# EAGLE library part MBED-NXP-LPC1786 (library Hoektronics)
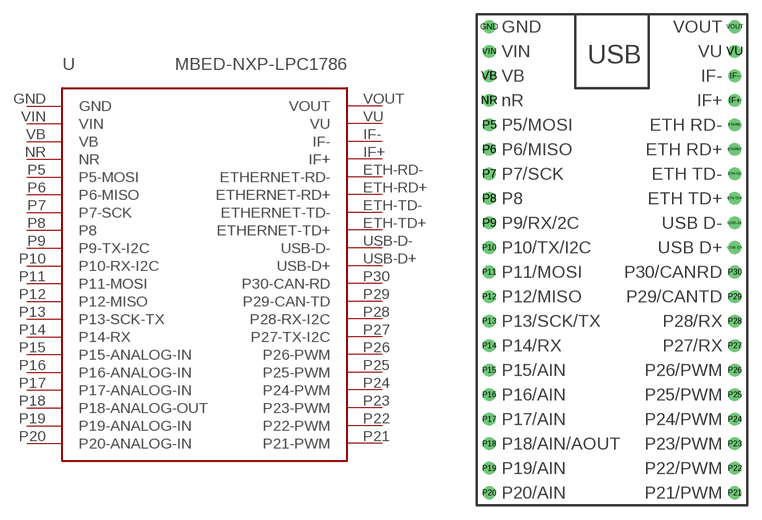
[diagram p9: symbol with the pads of MBED-NXP-LPC1786; footprint MBED-NXP-LPC1786]

Designator prefix -

## MBED-NXP-LPC1786  [MBED-NXP-LPC1786]
ETH-RD+  ETHERNET-RD+
ETH-RD-  ETHERNET-RD-
ETH-TD+  ETHERNET-TD+
ETH-TD-  ETHERNET-TD-
GND  GND
IF+  IF+
IF-  IF-
NR  NR
P5  P5-MOSI
P6  P6-MISO
P7  P7-SCK
P8  P8
P9  P9-TX-I2C
P10  P10-RX-I2C
P11  P11-MOSI
P12  P12-MISO
P13  P13-SCK-TX
P14  P14-RX
P15  P15-ANALOG-IN
P16  P16-ANALOG-IN
P17  P17-ANALOG-IN
P18  P18-ANALOG-OUT
P19  P19-ANALOG-IN
P20  P20-ANALOG-IN
P21  P21-PWM
P22  P22-PWM
P23  P23-PWM
P24  P24-PWM
P25  P25-PWM
P26  P26-PWM
P27  P27-TX-I2C
P28  P28-RX-I2C
P29  P29-CAN-TD
P30  P30-CAN-RD
USB-D+  USB-D+
USB-D-  USB-D-
VB  VB
VIN  VIN
VOUT  VOUT
VU  VU

## Footprint MBED-NXP-LPC1786 (pad centres in mm)
drill 0.8: ETH-RD+ 12.7,12.7; ETH-RD- 12.7,15.24; ETH-TD+ 12.7,7.62; ETH-TD- 12.7,10.16; GND -12.7,25.4; IF+ 12.7,17.78; IF- 12.7,20.32; NR -12.7,17.78; P5 -12.7,15.24; P6 -12.7,12.7; P7 -12.7,10.16; P8 -12.7,7.62; P9 -12.7,5.08; P10 -12.7,2.54; P11 -12.7,0; P12 -12.7,-2.54; P13 -12.7,-5.08; P14 -12.7,-7.62; P15 -12.7,-10.16; P16 -12.7,-12.7; P17 -12.7,-15.24; P18 -12.7,-17.78; P19 -12.7,-20.32; P20 -12.7,-22.86; P21 12.7,-22.86; P22 12.7,-20.32; P23 12.7,-17.78; P24 12.7,-15.24; P25 12.7,-12.7; P26 12.7,-10.16; P27 12.7,-7.62; P28 12.7,-5.08; P29 12.7,-2.54; P30 12.7,0; USB-D+ 12.7,2.54; USB-D- 12.7,5.08; VB -12.7,20.32; VIN -12.7,22.86; VOUT 12.7,25.4; VU 12.7,22.86